# Altium integrated library Alimentation Réglable.IntLib: 1 symbol
Pins are listed as number, name and electrical type; pins without a type are passive.

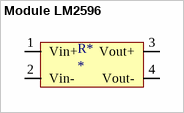
[diagram p0: symbol Module LM2596]

## Module LM2596
designator R*
footprint Module LM2596
pins: 1 Vin+, 2 Vin-, 3 Vout+, 4 Vout-